# Altium schematic symbol library Schlib1.SchLib: 5 symbols
Pins are listed as number, name and electrical type; pins without a type are passive.

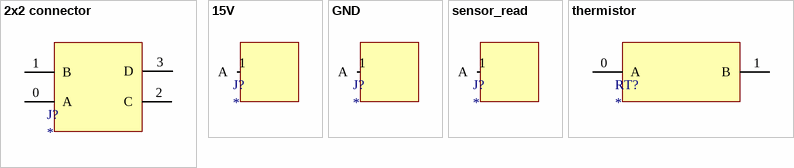
[diagram p0: symbols 2x2 connector to thermistor]

## 2x2 connector
designator J?
MPN: *; Manufacturer: *; Value: *
footprint 2x2 connector
pins: 0 A, 1 B, 2 C, 3 D

## 15V
designator J?
footprint PIN
pins: 1 A

## GND
designator J?
footprint PIN
pins: 1 A

## sensor_read
designator J?
footprint PIN
pins: 1 A

## thermistor
designator RT?
MPN: *; Manufacturer: *; Value: *
footprint thermistor
pins: 0 A, 1 B